# EAGLE library part LC4256ZE_XXTN100 (library lattice_ispMACH4000ZE)
ispMACH 4256ZE TQFP100 Lattice Semiconductor Corporation - ispMACH 4000ZE Ultra Low Power, Low Cost CPLD Family Generated using Lattice BSDL models: http://www.latticesemi.com/dynamic/index.cfm?fuseaction=view_documents&document_type=36&sloc=01-01-02-01&source=sidebar
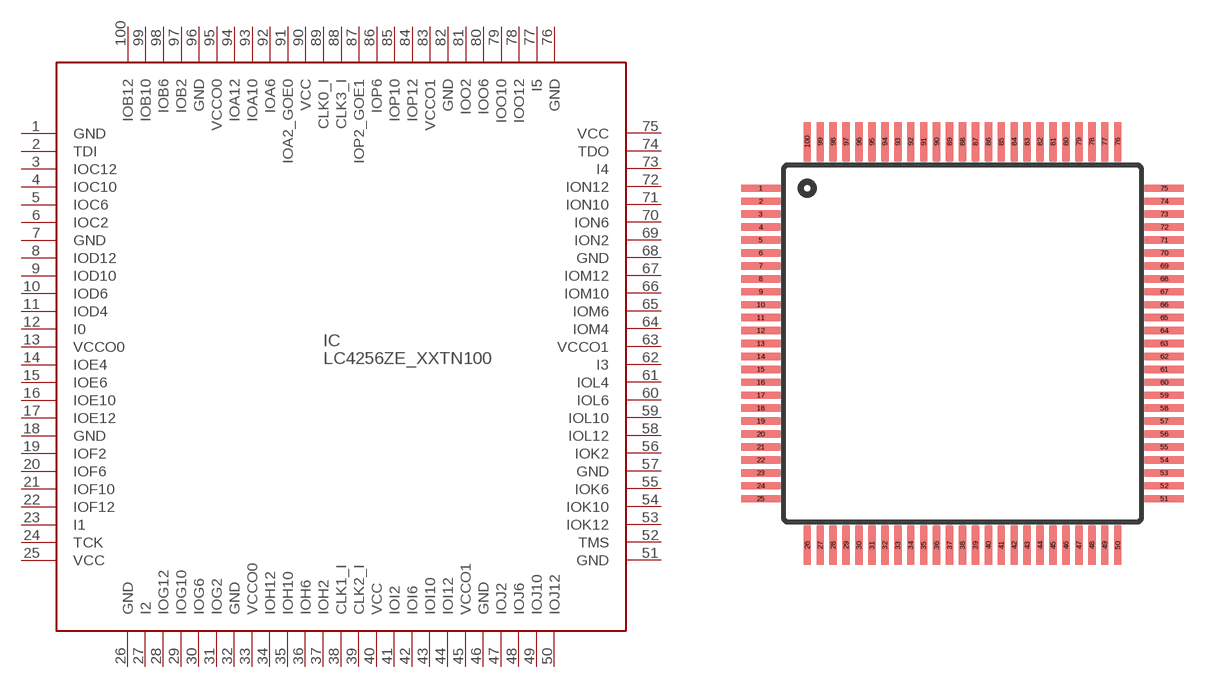
[diagram p5: symbol with the pads of TQFP100; footprint TQFP100]

Designator prefix IC

## LC4256ZE_XXTN100  [TQFP100]
1  GND  pwr
2  TDI  in
3  IOC12
4  IOC10
5  IOC6
6  IOC2
7  GND  pwr
8  IOD12
9  IOD10
10  IOD6
11  IOD4
12  I0
13  VCCO0  pwr
14  IOE4
15  IOE6
16  IOE10
17  IOE12
18  GND  pwr
19  IOF2
20  IOF6
21  IOF10
22  IOF12
23  I1
24  TCK  in
25  VCC  pwr
26  GND  pwr
27  I2
28  IOG12
29  IOG10
30  IOG6
31  IOG2
32  GND  pwr
33  VCCO0  pwr
34  IOH12
35  IOH10
36  IOH6
37  IOH2
38  CLK1_I  in
39  CLK2_I  in
40  VCC  pwr
41  IOI2
42  IOI6
43  IOI10
44  IOI12
45  VCCO1  pwr
46  GND  pwr
47  IOJ2
48  IOJ6
49  IOJ10
50  IOJ12
51  GND  pwr
52  TMS  in
53  IOK12
54  IOK10
55  IOK6
56  IOK2
57  GND  pwr
58  IOL12
59  IOL10
60  IOL6
61  IOL4
62  I3
63  VCCO1  pwr
64  IOM4
65  IOM6
66  IOM10
67  IOM12
68  GND  pwr
69  ION2
70  ION6
71  ION10
72  ION12
73  I4
74  TDO  out
75  VCC  pwr
76  GND  pwr
77  I5
78  IOO12
79  IOO10
80  IOO6
81  IOO2
82  GND  pwr
83  VCCO1  pwr
84  IOP12
85  IOP10
86  IOP6
87  IOP2_GOE1
88  CLK3_I  in
89  CLK0_I  in
90  VCC  pwr
91  IOA2_GOE0
92  IOA6
93  IOA10
94  IOA12
95  VCCO0  pwr
96  GND  pwr
97  IOB2
98  IOB6
99  IOB10
100  IOB12

## Footprint TQFP100 (pad centres in mm)
TQFP - 100 http://www.latticesemi.com/lit/docs/package/pkg.pdf
smd 1.5 x 0.285: 1 -7.8,6; 2 -7.8,5.5; 3 -7.8,5; 4 -7.8,4.5; 5 -7.8,4; 6 -7.8,3.5; 7 -7.8,3; 8 -7.8,2.5; 9 -7.8,2; 10 -7.8,1.5; 11 -7.8,1; 12 -7.8,0.5; 13 -7.8,0; 14 -7.8,-0.5; 15 -7.8,-1; 16 -7.8,-1.5; 17 -7.8,-2; 18 -7.8,-2.5; 19 -7.8,-3; 20 -7.8,-3.5; 21 -7.8,-4; 22 -7.8,-4.5; 23 -7.8,-5; 24 -7.8,-5.5; 25 -7.8,-6; 51 7.8,-6; 52 7.8,-5.5; 53 7.8,-5; 54 7.8,-4.5; 55 7.8,-4; 56 7.8,-3.5; 57 7.8,-3; 58 7.8,-2.5; 59 7.8,-2; 60 7.8,-1.5; 61 7.8,-1; 62 7.8,-0.5; 63 7.8,0; 64 7.8,0.5; 65 7.8,1; 66 7.8,1.5; 67 7.8,2; 68 7.8,2.5; 69 7.8,3; 70 7.8,3.5; 71 7.8,4; 72 7.8,4.5; 73 7.8,5; 74 7.8,5.5; 75 7.8,6
smd 0.285 x 1.5: 26 -6,-7.8; 27 -5.5,-7.8; 28 -5,-7.8; 29 -4.5,-7.8; 30 -4,-7.8; 31 -3.5,-7.8; 32 -3,-7.8; 33 -2.5,-7.8; 34 -2,-7.8; 35 -1.5,-7.8; 36 -1,-7.8; 37 -0.5,-7.8; 38 0,-7.8; 39 0.5,-7.8; 40 1,-7.8; 41 1.5,-7.8; 42 2,-7.8; 43 2.5,-7.8; 44 3,-7.8; 45 3.5,-7.8; 46 4,-7.8; 47 4.5,-7.8; 48 5,-7.8; 49 5.5,-7.8; 50 6,-7.8; 76 6,7.8; 77 5.5,7.8; 78 5,7.8; 79 4.5,7.8; 80 4,7.8; 81 3.5,7.8; 82 3,7.8; 83 2.5,7.8; 84 2,7.8; 85 1.5,7.8; 86 1,7.8; 87 0.5,7.8; 88 0,7.8; 89 -0.5,7.8; 90 -1,7.8; 91 -1.5,7.8; 92 -2,7.8; 93 -2.5,7.8; 94 -3,7.8; 95 -3.5,7.8; 96 -4,7.8; 97 -4.5,7.8; 98 -5,7.8; 99 -5.5,7.8; 100 -6,7.8